# Altium footprint library IPC-SM-782 Section 11.2 SQFP_QFP-Square.PcbLib: 78 footprints (part 6 of 7)
Each footprint in its own frame and in the unit in brackets; x right, y up, seen from the top. Pads: shape width x height; smd on the part's side, far side on the other; paste and mask are expansions set on the pad; w line width, h text height; cw(c..) or ccw(c..) is an arc to the next point about the centre after c.
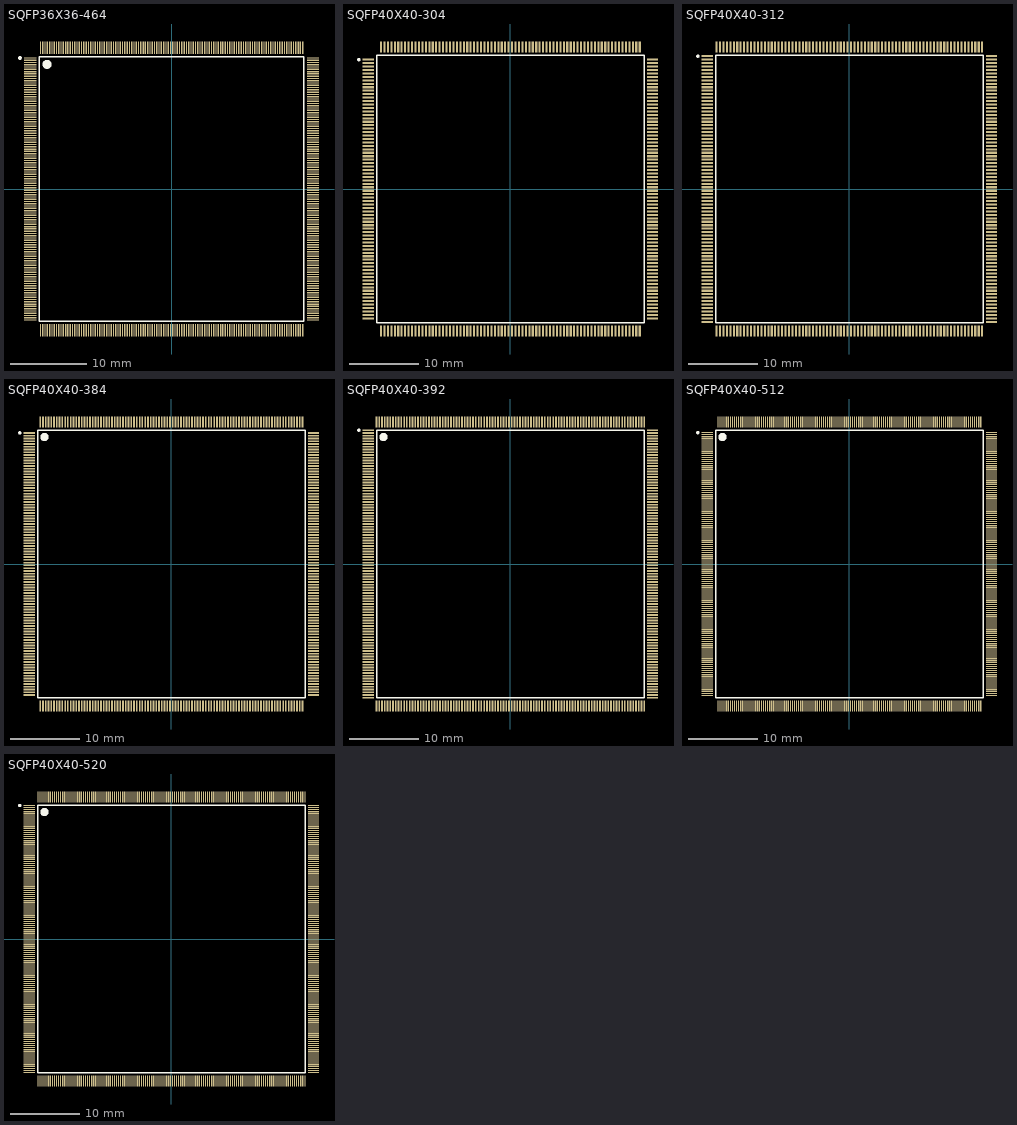
[diagram p5: the footprints below, top view; thin cyan lines are the x and y axes]

## SQFP36X36-464 [mm] "QFP; 464 Leads; Body 36 x 36 mm; Pitch 0.3 mm"
height 4.2
pads (464):
  rect 1.6x0.17 smd: 1(-18.6,17.25) 2(-18.6,16.95) 3(-18.6,16.65) 4(-18.6,16.35) 5(-18.6,16.05) 6(-18.6,15.75) 7(-18.6,15.45) 8(-18.6,15.15) 9(-18.6,14.85) 10(-18.6,14.55) 11(-18.6,14.25) 12(-18.6,13.95) 13(-18.6,13.65) 14(-18.6,13.35) 15(-18.6,13.05) 16(-18.6,12.75) 17(-18.6,12.45) 18(-18.6,12.15) 19(-18.6,11.85) 20(-18.6,11.55) 21(-18.6,11.25) 22(-18.6,10.95) 23(-18.6,10.65) 24(-18.6,10.35) 25(-18.6,10.05) 26(-18.6,9.75) 27(-18.6,9.45) 28(-18.6,9.15) 29(-18.6,8.85) 30(-18.6,8.55) 31(-18.6,8.25) 32(-18.6,7.95) 33(-18.6,7.65) 34(-18.6,7.35) 35(-18.6,7.05) 36(-18.6,6.75) 37(-18.6,6.45) 38(-18.6,6.15) 39(-18.6,5.85) 40(-18.6,5.55) 41(-18.6,5.25) 42(-18.6,4.95) 43(-18.6,4.65) 44(-18.6,4.35) 45(-18.6,4.05) 46(-18.6,3.75) 47(-18.6,3.45) 48(-18.6,3.15) 49(-18.6,2.85) 50(-18.6,2.55) 51(-18.6,2.25) 52(-18.6,1.95) 53(-18.6,1.65) 54(-18.6,1.35) 55(-18.6,1.05) 56(-18.6,0.75) 57(-18.6,0.45) 58(-18.6,0.15) 59(-18.6,-0.15) 60(-18.6,-0.45) 61(-18.6,-0.75) 62(-18.6,-1.05) 63(-18.6,-1.35) 64(-18.6,-1.65) 65(-18.6,-1.95) 66(-18.6,-2.25) 67(-18.6,-2.55) 68(-18.6,-2.85) 69(-18.6,-3.15) 70(-18.6,-3.45) 71(-18.6,-3.75) 72(-18.6,-4.05) 73(-18.6,-4.35) 74(-18.6,-4.65) 75(-18.6,-4.95) 76(-18.6,-5.25) 77(-18.6,-5.55) 78(-18.6,-5.85) 79(-18.6,-6.15) 80(-18.6,-6.45) 81(-18.6,-6.75) 82(-18.6,-7.05) 83(-18.6,-7.35) 84(-18.6,-7.65) 85(-18.6,-7.95) 86(-18.6,-8.25) 87(-18.6,-8.55) 88(-18.6,-8.85) 89(-18.6,-9.15) 90(-18.6,-9.45) 91(-18.6,-9.75) 92(-18.6,-10.05) 93(-18.6,-10.35) 94(-18.6,-10.65) 95(-18.6,-10.95) 96(-18.6,-11.25) 97(-18.6,-11.55) 98(-18.6,-11.85) 99(-18.6,-12.15) 100(-18.6,-12.45) 101(-18.6,-12.75) 102(-18.6,-13.05) 103(-18.6,-13.35) 104(-18.6,-13.65) 105(-18.6,-13.95) 106(-18.6,-14.25) 107(-18.6,-14.55) 108(-18.6,-14.85) 109(-18.6,-15.15) 110(-18.6,-15.45) 111(-18.6,-15.75) 112(-18.6,-16.05) 113(-18.6,-16.35) 114(-18.6,-16.65) 115(-18.6,-16.95) 116(-18.6,-17.25) 233(18.6,-17.25) 234(18.6,-16.95) 235(18.6,-16.65) 236(18.6,-16.35) 237(18.6,-16.05) 238(18.6,-15.75) 239(18.6,-15.45) 240(18.6,-15.15) 241(18.6,-14.85) 242(18.6,-14.55) 243(18.6,-14.25) 244(18.6,-13.95) 245(18.6,-13.65) 246(18.6,-13.35) 247(18.6,-13.05) 248(18.6,-12.75) 249(18.6,-12.45) 250(18.6,-12.15) 251(18.6,-11.85) 252(18.6,-11.55) 253(18.6,-11.25) 254(18.6,-10.95) 255(18.6,-10.65) 256(18.6,-10.35) 257(18.6,-10.05) 258(18.6,-9.75) 259(18.6,-9.45) 260(18.6,-9.15) 261(18.6,-8.85) 262(18.6,-8.55) 263(18.6,-8.25) 264(18.6,-7.95) 265(18.6,-7.65) 266(18.6,-7.35) 267(18.6,-7.05) 268(18.6,-6.75) 269(18.6,-6.45) 270(18.6,-6.15) 271(18.6,-5.85) 272(18.6,-5.55) 273(18.6,-5.25) 274(18.6,-4.95) 275(18.6,-4.65) 276(18.6,-4.35) 277(18.6,-4.05) 278(18.6,-3.75) 279(18.6,-3.45) 280(18.6,-3.15) 281(18.6,-2.85) 282(18.6,-2.55) 283(18.6,-2.25) 284(18.6,-1.95) 285(18.6,-1.65) 286(18.6,-1.35) 287(18.6,-1.05) 288(18.6,-0.75) 289(18.6,-0.45) 290(18.6,-0.15) 291(18.6,0.15) 292(18.6,0.45) 293(18.6,0.75) 294(18.6,1.05) 295(18.6,1.35) 296(18.6,1.65) 297(18.6,1.95) 298(18.6,2.25) 299(18.6,2.55) 300(18.6,2.85) 301(18.6,3.15) 302(18.6,3.45) 303(18.6,3.75) 304(18.6,4.05) 305(18.6,4.35) 306(18.6,4.65) 307(18.6,4.95) 308(18.6,5.25) 309(18.6,5.55) 310(18.6,5.85) 311(18.6,6.15) 312(18.6,6.45) 313(18.6,6.75) 314(18.6,7.05) 315(18.6,7.35) 316(18.6,7.65) 317(18.6,7.95) 318(18.6,8.25) 319(18.6,8.55) 320(18.6,8.85) 321(18.6,9.15) 322(18.6,9.45) 323(18.6,9.75) 324(18.6,10.05) 325(18.6,10.35) 326(18.6,10.65) 327(18.6,10.95) 328(18.6,11.25) 329(18.6,11.55) 330(18.6,11.85) 331(18.6,12.15) 332(18.6,12.45) 333(18.6,12.75) 334(18.6,13.05) 335(18.6,13.35) 336(18.6,13.65) 337(18.6,13.95) 338(18.6,14.25) 339(18.6,14.55) 340(18.6,14.85) 341(18.6,15.15) 342(18.6,15.45) 343(18.6,15.75) 344(18.6,16.05) 345(18.6,16.35) 346(18.6,16.65) 347(18.6,16.95) 348(18.6,17.25)
  rect 0.17x1.6 smd: 117(-17.25,-18.6) 118(-16.95,-18.6) 119(-16.65,-18.6) 120(-16.35,-18.6) 121(-16.05,-18.6) 122(-15.75,-18.6) 123(-15.45,-18.6) 124(-15.15,-18.6) 125(-14.85,-18.6) 126(-14.55,-18.6) 127(-14.25,-18.6) 128(-13.95,-18.6) 129(-13.65,-18.6) 130(-13.35,-18.6) 131(-13.05,-18.6) 132(-12.75,-18.6) 133(-12.45,-18.6) 134(-12.15,-18.6) 135(-11.85,-18.6) 136(-11.55,-18.6) 137(-11.25,-18.6) 138(-10.95,-18.6) 139(-10.65,-18.6) 140(-10.35,-18.6) 141(-10.05,-18.6) 142(-9.75,-18.6) 143(-9.45,-18.6) 144(-9.15,-18.6) 145(-8.85,-18.6) 146(-8.55,-18.6) 147(-8.25,-18.6) 148(-7.95,-18.6) 149(-7.65,-18.6) 150(-7.35,-18.6) 151(-7.05,-18.6) 152(-6.75,-18.6) 153(-6.45,-18.6) 154(-6.15,-18.6) 155(-5.85,-18.6) 156(-5.55,-18.6) 157(-5.25,-18.6) 158(-4.95,-18.6) 159(-4.65,-18.6) 160(-4.35,-18.6) 161(-4.05,-18.6) 162(-3.75,-18.6) 163(-3.45,-18.6) 164(-3.15,-18.6) 165(-2.85,-18.6) 166(-2.55,-18.6) 167(-2.25,-18.6) 168(-1.95,-18.6) 169(-1.65,-18.6) 170(-1.35,-18.6) 171(-1.05,-18.6) 172(-0.75,-18.6) 173(-0.45,-18.6) 174(-0.15,-18.6) 175(0.15,-18.6) 176(0.45,-18.6) 177(0.75,-18.6) 178(1.05,-18.6) 179(1.35,-18.6) 180(1.65,-18.6) 181(1.95,-18.6) 182(2.25,-18.6) 183(2.55,-18.6) 184(2.85,-18.6) 185(3.15,-18.6) 186(3.45,-18.6) 187(3.75,-18.6) 188(4.05,-18.6) 189(4.35,-18.6) 190(4.65,-18.6) 191(4.95,-18.6) 192(5.25,-18.6) 193(5.55,-18.6) 194(5.85,-18.6) 195(6.15,-18.6) 196(6.45,-18.6) 197(6.75,-18.6) 198(7.05,-18.6) 199(7.35,-18.6) 200(7.65,-18.6) 201(7.95,-18.6) 202(8.25,-18.6) 203(8.55,-18.6) 204(8.85,-18.6) 205(9.15,-18.6) 206(9.45,-18.6) 207(9.75,-18.6) 208(10.05,-18.6) 209(10.35,-18.6) 210(10.65,-18.6) 211(10.95,-18.6) 212(11.25,-18.6) 213(11.55,-18.6) 214(11.85,-18.6) 215(12.15,-18.6) 216(12.45,-18.6) 217(12.75,-18.6) 218(13.05,-18.6) 219(13.35,-18.6) 220(13.65,-18.6) 221(13.95,-18.6) 222(14.25,-18.6) 223(14.55,-18.6) 224(14.85,-18.6) 225(15.15,-18.6) 226(15.45,-18.6) 227(15.75,-18.6) 228(16.05,-18.6) 229(16.35,-18.6) 230(16.65,-18.6) 231(16.95,-18.6) 232(17.25,-18.6) 349(17.25,18.6) 350(16.95,18.6) 351(16.65,18.6) 352(16.35,18.6) 353(16.05,18.6) 354(15.75,18.6) 355(15.45,18.6) 356(15.15,18.6) 357(14.85,18.6) 358(14.55,18.6) 359(14.25,18.6) 360(13.95,18.6) 361(13.65,18.6) 362(13.35,18.6) 363(13.05,18.6) 364(12.75,18.6) 365(12.45,18.6) 366(12.15,18.6) 367(11.85,18.6) 368(11.55,18.6) 369(11.25,18.6) 370(10.95,18.6) 371(10.65,18.6) 372(10.35,18.6) 373(10.05,18.6) 374(9.75,18.6) 375(9.45,18.6) 376(9.15,18.6) 377(8.85,18.6) 378(8.55,18.6) 379(8.25,18.6) 380(7.95,18.6) 381(7.65,18.6) 382(7.35,18.6) 383(7.05,18.6) 384(6.75,18.6) 385(6.45,18.6) 386(6.15,18.6) 387(5.85,18.6) 388(5.55,18.6) 389(5.25,18.6) 390(4.95,18.6) 391(4.65,18.6) 392(4.35,18.6) 393(4.05,18.6) 394(3.75,18.6) 395(3.45,18.6) 396(3.15,18.6) 397(2.85,18.6) 398(2.55,18.6) 399(2.25,18.6) 400(1.95,18.6) 401(1.65,18.6) 402(1.35,18.6) 403(1.05,18.6) 404(0.75,18.6) 405(0.45,18.6) 406(0.15,18.6) 407(-0.15,18.6) 408(-0.45,18.6) 409(-0.75,18.6) 410(-1.05,18.6) 411(-1.35,18.6) 412(-1.65,18.6) 413(-1.95,18.6) 414(-2.25,18.6) 415(-2.55,18.6) 416(-2.85,18.6) 417(-3.15,18.6) 418(-3.45,18.6) 419(-3.75,18.6) 420(-4.05,18.6) 421(-4.35,18.6) 422(-4.65,18.6) 423(-4.95,18.6) 424(-5.25,18.6) 425(-5.55,18.6) 426(-5.85,18.6) 427(-6.15,18.6) 428(-6.45,18.6) 429(-6.75,18.6) 430(-7.05,18.6) 431(-7.35,18.6) 432(-7.65,18.6) 433(-7.95,18.6) 434(-8.25,18.6) 435(-8.55,18.6) 436(-8.85,18.6) 437(-9.15,18.6) 438(-9.45,18.6) 439(-9.75,18.6) 440(-10.05,18.6) 441(-10.35,18.6) 442(-10.65,18.6) 443(-10.95,18.6) 444(-11.25,18.6) 445(-11.55,18.6) 446(-11.85,18.6) 447(-12.15,18.6) 448(-12.45,18.6) 449(-12.75,18.6) 450(-13.05,18.6) 451(-13.35,18.6) 452(-13.65,18.6) 453(-13.95,18.6) 454(-14.25,18.6) 455(-14.55,18.6) 456(-14.85,18.6) 457(-15.15,18.6) 458(-15.45,18.6) 459(-15.75,18.6) 460(-16.05,18.6) 461(-16.35,18.6) 462(-16.65,18.6) 463(-16.95,18.6) 464(-17.25,18.6)
Top Overlay:
  circle w0.25: c-19.96,17.25 r0.125
  circle w0.6: c-16.4,16.4 r0.3
  lines w0.2: -17.4,-17.4 17.4,-17.4 17.4,17.4 -17.4,17.4 -17.4,-17.4

## SQFP40X40-304 [mm] "QFP; 304 Leads; Body 40 x 40 mm; Pitch 0.5 mm"
height 4.2
pads (304):
  rect 1.6x0.3 smd: 1(-20.6,18.75) 2(-20.6,18.25) 3(-20.6,17.75) 4(-20.6,17.25) 5(-20.6,16.75) 6(-20.6,16.25) 7(-20.6,15.75) 8(-20.6,15.25) 9(-20.6,14.75) 10(-20.6,14.25) 11(-20.6,13.75) 12(-20.6,13.25) 13(-20.6,12.75) 14(-20.6,12.25) 15(-20.6,11.75) 16(-20.6,11.25) 17(-20.6,10.75) 18(-20.6,10.25) 19(-20.6,9.75) 20(-20.6,9.25) 21(-20.6,8.75) 22(-20.6,8.25) 23(-20.6,7.75) 24(-20.6,7.25) 25(-20.6,6.75) 26(-20.6,6.25) 27(-20.6,5.75) 28(-20.6,5.25) 29(-20.6,4.75) 30(-20.6,4.25) 31(-20.6,3.75) 32(-20.6,3.25) 33(-20.6,2.75) 34(-20.6,2.25) 35(-20.6,1.75) 36(-20.6,1.25) 37(-20.6,0.75) 38(-20.6,0.25) 39(-20.6,-0.25) 40(-20.6,-0.75) 41(-20.6,-1.25) 42(-20.6,-1.75) 43(-20.6,-2.25) 44(-20.6,-2.75) 45(-20.6,-3.25) 46(-20.6,-3.75) 47(-20.6,-4.25) 48(-20.6,-4.75) 49(-20.6,-5.25) 50(-20.6,-5.75) 51(-20.6,-6.25) 52(-20.6,-6.75) 53(-20.6,-7.25) 54(-20.6,-7.75) 55(-20.6,-8.25) 56(-20.6,-8.75) 57(-20.6,-9.25) 58(-20.6,-9.75) 59(-20.6,-10.25) 60(-20.6,-10.75) 61(-20.6,-11.25) 62(-20.6,-11.75) 63(-20.6,-12.25) 64(-20.6,-12.75) 65(-20.6,-13.25) 66(-20.6,-13.75) 67(-20.6,-14.25) 68(-20.6,-14.75) 69(-20.6,-15.25) 70(-20.6,-15.75) 71(-20.6,-16.25) 72(-20.6,-16.75) 73(-20.6,-17.25) 74(-20.6,-17.75) 75(-20.6,-18.25) 76(-20.6,-18.75) 153(20.6,-18.75) 154(20.6,-18.25) 155(20.6,-17.75) 156(20.6,-17.25) 157(20.6,-16.75) 158(20.6,-16.25) 159(20.6,-15.75) 160(20.6,-15.25) 161(20.6,-14.75) 162(20.6,-14.25) 163(20.6,-13.75) 164(20.6,-13.25) 165(20.6,-12.75) 166(20.6,-12.25) 167(20.6,-11.75) 168(20.6,-11.25) 169(20.6,-10.75) 170(20.6,-10.25) 171(20.6,-9.75) 172(20.6,-9.25) 173(20.6,-8.75) 174(20.6,-8.25) 175(20.6,-7.75) 176(20.6,-7.25) 177(20.6,-6.75) 178(20.6,-6.25) 179(20.6,-5.75) 180(20.6,-5.25) 181(20.6,-4.75) 182(20.6,-4.25) 183(20.6,-3.75) 184(20.6,-3.25) 185(20.6,-2.75) 186(20.6,-2.25) 187(20.6,-1.75) 188(20.6,-1.25) 189(20.6,-0.75) 190(20.6,-0.25) 191(20.6,0.25) 192(20.6,0.75) 193(20.6,1.25) 194(20.6,1.75) 195(20.6,2.25) 196(20.6,2.75) 197(20.6,3.25) 198(20.6,3.75) 199(20.6,4.25) 200(20.6,4.75) 201(20.6,5.25) 202(20.6,5.75) 203(20.6,6.25) 204(20.6,6.75) 205(20.6,7.25) 206(20.6,7.75) 207(20.6,8.25) 208(20.6,8.75) 209(20.6,9.25) 210(20.6,9.75) 211(20.6,10.25) 212(20.6,10.75) 213(20.6,11.25) 214(20.6,11.75) 215(20.6,12.25) 216(20.6,12.75) 217(20.6,13.25) 218(20.6,13.75) 219(20.6,14.25) 220(20.6,14.75) 221(20.6,15.25) 222(20.6,15.75) 223(20.6,16.25) 224(20.6,16.75) 225(20.6,17.25) 226(20.6,17.75) 227(20.6,18.25) 228(20.6,18.75)
  rect 0.3x1.6 smd: 77(-18.75,-20.6) 78(-18.25,-20.6) 79(-17.75,-20.6) 80(-17.25,-20.6) 81(-16.75,-20.6) 82(-16.25,-20.6) 83(-15.75,-20.6) 84(-15.25,-20.6) 85(-14.75,-20.6) 86(-14.25,-20.6) 87(-13.75,-20.6) 88(-13.25,-20.6) 89(-12.75,-20.6) 90(-12.25,-20.6) 91(-11.75,-20.6) 92(-11.25,-20.6) 93(-10.75,-20.6) 94(-10.25,-20.6) 95(-9.75,-20.6) 96(-9.25,-20.6) 97(-8.75,-20.6) 98(-8.25,-20.6) 99(-7.75,-20.6) 100(-7.25,-20.6) 101(-6.75,-20.6) 102(-6.25,-20.6) 103(-5.75,-20.6) 104(-5.25,-20.6) 105(-4.75,-20.6) 106(-4.25,-20.6) 107(-3.75,-20.6) 108(-3.25,-20.6) 109(-2.75,-20.6) 110(-2.25,-20.6) 111(-1.75,-20.6) 112(-1.25,-20.6) 113(-0.75,-20.6) 114(-0.25,-20.6) 115(0.25,-20.6) 116(0.75,-20.6) 117(1.25,-20.6) 118(1.75,-20.6) 119(2.25,-20.6) 120(2.75,-20.6) 121(3.25,-20.6) 122(3.75,-20.6) 123(4.25,-20.6) 124(4.75,-20.6) 125(5.25,-20.6) 126(5.75,-20.6) 127(6.25,-20.6) 128(6.75,-20.6) 129(7.25,-20.6) 130(7.75,-20.6) 131(8.25,-20.6) 132(8.75,-20.6) 133(9.25,-20.6) 134(9.75,-20.6) 135(10.25,-20.6) 136(10.75,-20.6) 137(11.25,-20.6) 138(11.75,-20.6) 139(12.25,-20.6) 140(12.75,-20.6) 141(13.25,-20.6) 142(13.75,-20.6) 143(14.25,-20.6) 144(14.75,-20.6) 145(15.25,-20.6) 146(15.75,-20.6) 147(16.25,-20.6) 148(16.75,-20.6) 149(17.25,-20.6) 150(17.75,-20.6) 151(18.25,-20.6) 152(18.75,-20.6) 229(18.75,20.6) 230(18.25,20.6) 231(17.75,20.6) 232(17.25,20.6) 233(16.75,20.6) 234(16.25,20.6) 235(15.75,20.6) 236(15.25,20.6) 237(14.75,20.6) 238(14.25,20.6) 239(13.75,20.6) 240(13.25,20.6) 241(12.75,20.6) 242(12.25,20.6) 243(11.75,20.6) 244(11.25,20.6) 245(10.75,20.6) 246(10.25,20.6) 247(9.75,20.6) 248(9.25,20.6) 249(8.75,20.6) 250(8.25,20.6) 251(7.75,20.6) 252(7.25,20.6) 253(6.75,20.6) 254(6.25,20.6) 255(5.75,20.6) 256(5.25,20.6) 257(4.75,20.6) 258(4.25,20.6) 259(3.75,20.6) 260(3.25,20.6) 261(2.75,20.6) 262(2.25,20.6) 263(1.75,20.6) 264(1.25,20.6) 265(0.75,20.6) 266(0.25,20.6) 267(-0.25,20.6) 268(-0.75,20.6) 269(-1.25,20.6) 270(-1.75,20.6) 271(-2.25,20.6) 272(-2.75,20.6) 273(-3.25,20.6) 274(-3.75,20.6) 275(-4.25,20.6) 276(-4.75,20.6) 277(-5.25,20.6) 278(-5.75,20.6) 279(-6.25,20.6) 280(-6.75,20.6) 281(-7.25,20.6) 282(-7.75,20.6) 283(-8.25,20.6) 284(-8.75,20.6) 285(-9.25,20.6) 286(-9.75,20.6) 287(-10.25,20.6) 288(-10.75,20.6) 289(-11.25,20.6) 290(-11.75,20.6) 291(-12.25,20.6) 292(-12.75,20.6) 293(-13.25,20.6) 294(-13.75,20.6) 295(-14.25,20.6) 296(-14.75,20.6) 297(-15.25,20.6) 298(-15.75,20.6) 299(-16.25,20.6) 300(-16.75,20.6) 301(-17.25,20.6) 302(-17.75,20.6) 303(-18.25,20.6) 304(-18.75,20.6)
Top Overlay:
  circle w0.25: c-21.96,18.75 r0.125
  lines w0.2: -19.4,-19.4 19.4,-19.4 19.4,19.4 -19.4,19.4 -19.4,-19.4

## SQFP40X40-312 [mm] "QFP; 312 Leads; Body 40 x 40 mm; Pitch 0.5 mm"
height 4.2
pads (312):
  rect 1.6x0.3 smd: 1(-20.6,19.25) 2(-20.6,18.75) 3(-20.6,18.25) 4(-20.6,17.75) 5(-20.6,17.25) 6(-20.6,16.75) 7(-20.6,16.25) 8(-20.6,15.75) 9(-20.6,15.25) 10(-20.6,14.75) 11(-20.6,14.25) 12(-20.6,13.75) 13(-20.6,13.25) 14(-20.6,12.75) 15(-20.6,12.25) 16(-20.6,11.75) 17(-20.6,11.25) 18(-20.6,10.75) 19(-20.6,10.25) 20(-20.6,9.75) 21(-20.6,9.25) 22(-20.6,8.75) 23(-20.6,8.25) 24(-20.6,7.75) 25(-20.6,7.25) 26(-20.6,6.75) 27(-20.6,6.25) 28(-20.6,5.75) 29(-20.6,5.25) 30(-20.6,4.75) 31(-20.6,4.25) 32(-20.6,3.75) 33(-20.6,3.25) 34(-20.6,2.75) 35(-20.6,2.25) 36(-20.6,1.75) 37(-20.6,1.25) 38(-20.6,0.75) 39(-20.6,0.25) 40(-20.6,-0.25) 41(-20.6,-0.75) 42(-20.6,-1.25) 43(-20.6,-1.75) 44(-20.6,-2.25) 45(-20.6,-2.75) 46(-20.6,-3.25) 47(-20.6,-3.75) 48(-20.6,-4.25) 49(-20.6,-4.75) 50(-20.6,-5.25) 51(-20.6,-5.75) 52(-20.6,-6.25) 53(-20.6,-6.75) 54(-20.6,-7.25) 55(-20.6,-7.75) 56(-20.6,-8.25) 57(-20.6,-8.75) 58(-20.6,-9.25) 59(-20.6,-9.75) 60(-20.6,-10.25) 61(-20.6,-10.75) 62(-20.6,-11.25) 63(-20.6,-11.75) 64(-20.6,-12.25) 65(-20.6,-12.75) 66(-20.6,-13.25) 67(-20.6,-13.75) 68(-20.6,-14.25) 69(-20.6,-14.75) 70(-20.6,-15.25) 71(-20.6,-15.75) 72(-20.6,-16.25) 73(-20.6,-16.75) 74(-20.6,-17.25) 75(-20.6,-17.75) 76(-20.6,-18.25) 77(-20.6,-18.75) 78(-20.6,-19.25) 157(20.6,-19.25) 158(20.6,-18.75) 159(20.6,-18.25) 160(20.6,-17.75) 161(20.6,-17.25) 162(20.6,-16.75) 163(20.6,-16.25) 164(20.6,-15.75) 165(20.6,-15.25) 166(20.6,-14.75) 167(20.6,-14.25) 168(20.6,-13.75) 169(20.6,-13.25) 170(20.6,-12.75) 171(20.6,-12.25) 172(20.6,-11.75) 173(20.6,-11.25) 174(20.6,-10.75) 175(20.6,-10.25) 176(20.6,-9.75) 177(20.6,-9.25) 178(20.6,-8.75) 179(20.6,-8.25) 180(20.6,-7.75) 181(20.6,-7.25) 182(20.6,-6.75) 183(20.6,-6.25) 184(20.6,-5.75) 185(20.6,-5.25) 186(20.6,-4.75) 187(20.6,-4.25) 188(20.6,-3.75) 189(20.6,-3.25) 190(20.6,-2.75) 191(20.6,-2.25) 192(20.6,-1.75) 193(20.6,-1.25) 194(20.6,-0.75) 195(20.6,-0.25) 196(20.6,0.25) 197(20.6,0.75) 198(20.6,1.25) 199(20.6,1.75) 200(20.6,2.25) 201(20.6,2.75) 202(20.6,3.25) 203(20.6,3.75) 204(20.6,4.25) 205(20.6,4.75) 206(20.6,5.25) 207(20.6,5.75) 208(20.6,6.25) 209(20.6,6.75) 210(20.6,7.25) 211(20.6,7.75) 212(20.6,8.25) 213(20.6,8.75) 214(20.6,9.25) 215(20.6,9.75) 216(20.6,10.25) 217(20.6,10.75) 218(20.6,11.25) 219(20.6,11.75) 220(20.6,12.25) 221(20.6,12.75) 222(20.6,13.25) 223(20.6,13.75) 224(20.6,14.25) 225(20.6,14.75) 226(20.6,15.25) 227(20.6,15.75) 228(20.6,16.25) 229(20.6,16.75) 230(20.6,17.25) 231(20.6,17.75) 232(20.6,18.25) 233(20.6,18.75) 234(20.6,19.25)
  rect 0.3x1.6 smd: 79(-19.25,-20.6) 80(-18.75,-20.6) 81(-18.25,-20.6) 82(-17.75,-20.6) 83(-17.25,-20.6) 84(-16.75,-20.6) 85(-16.25,-20.6) 86(-15.75,-20.6) 87(-15.25,-20.6) 88(-14.75,-20.6) 89(-14.25,-20.6) 90(-13.75,-20.6) 91(-13.25,-20.6) 92(-12.75,-20.6) 93(-12.25,-20.6) 94(-11.75,-20.6) 95(-11.25,-20.6) 96(-10.75,-20.6) 97(-10.25,-20.6) 98(-9.75,-20.6) 99(-9.25,-20.6) 100(-8.75,-20.6) 101(-8.25,-20.6) 102(-7.75,-20.6) 103(-7.25,-20.6) 104(-6.75,-20.6) 105(-6.25,-20.6) 106(-5.75,-20.6) 107(-5.25,-20.6) 108(-4.75,-20.6) 109(-4.25,-20.6) 110(-3.75,-20.6) 111(-3.25,-20.6) 112(-2.75,-20.6) 113(-2.25,-20.6) 114(-1.75,-20.6) 115(-1.25,-20.6) 116(-0.75,-20.6) 117(-0.25,-20.6) 118(0.25,-20.6) 119(0.75,-20.6) 120(1.25,-20.6) 121(1.75,-20.6) 122(2.25,-20.6) 123(2.75,-20.6) 124(3.25,-20.6) 125(3.75,-20.6) 126(4.25,-20.6) 127(4.75,-20.6) 128(5.25,-20.6) 129(5.75,-20.6) 130(6.25,-20.6) 131(6.75,-20.6) 132(7.25,-20.6) 133(7.75,-20.6) 134(8.25,-20.6) 135(8.75,-20.6) 136(9.25,-20.6) 137(9.75,-20.6) 138(10.25,-20.6) 139(10.75,-20.6) 140(11.25,-20.6) 141(11.75,-20.6) 142(12.25,-20.6) 143(12.75,-20.6) 144(13.25,-20.6) 145(13.75,-20.6) 146(14.25,-20.6) 147(14.75,-20.6) 148(15.25,-20.6) 149(15.75,-20.6) 150(16.25,-20.6) 151(16.75,-20.6) 152(17.25,-20.6) 153(17.75,-20.6) 154(18.25,-20.6) 155(18.75,-20.6) 156(19.25,-20.6) 235(19.25,20.6) 236(18.75,20.6) 237(18.25,20.6) 238(17.75,20.6) 239(17.25,20.6) 240(16.75,20.6) 241(16.25,20.6) 242(15.75,20.6) 243(15.25,20.6) 244(14.75,20.6) 245(14.25,20.6) 246(13.75,20.6) 247(13.25,20.6) 248(12.75,20.6) 249(12.25,20.6) 250(11.75,20.6) 251(11.25,20.6) 252(10.75,20.6) 253(10.25,20.6) 254(9.75,20.6) 255(9.25,20.6) 256(8.75,20.6) 257(8.25,20.6) 258(7.75,20.6) 259(7.25,20.6) 260(6.75,20.6) 261(6.25,20.6) 262(5.75,20.6) 263(5.25,20.6) 264(4.75,20.6) 265(4.25,20.6) 266(3.75,20.6) 267(3.25,20.6) 268(2.75,20.6) 269(2.25,20.6) 270(1.75,20.6) 271(1.25,20.6) 272(0.75,20.6) 273(0.25,20.6) 274(-0.25,20.6) 275(-0.75,20.6) 276(-1.25,20.6) 277(-1.75,20.6) 278(-2.25,20.6) 279(-2.75,20.6) 280(-3.25,20.6) 281(-3.75,20.6) 282(-4.25,20.6) 283(-4.75,20.6) 284(-5.25,20.6) 285(-5.75,20.6) 286(-6.25,20.6) 287(-6.75,20.6) 288(-7.25,20.6) 289(-7.75,20.6) 290(-8.25,20.6) 291(-8.75,20.6) 292(-9.25,20.6) 293(-9.75,20.6) 294(-10.25,20.6) 295(-10.75,20.6) 296(-11.25,20.6) 297(-11.75,20.6) 298(-12.25,20.6) 299(-12.75,20.6) 300(-13.25,20.6) 301(-13.75,20.6) 302(-14.25,20.6) 303(-14.75,20.6) 304(-15.25,20.6) 305(-15.75,20.6) 306(-16.25,20.6) 307(-16.75,20.6) 308(-17.25,20.6) 309(-17.75,20.6) 310(-18.25,20.6) 311(-18.75,20.6) 312(-19.25,20.6)
Top Overlay:
  circle w0.25: c-21.96,19.25 r0.125
  lines w0.2: -19.4,-19.4 -19.4,19.4 19.4,19.4 19.4,-19.4 -19.4,-19.4

## SQFP40X40-384 [mm] "QFP; 384 Leads; Body 40 x 40 mm; Pitch 0.4 mm"
height 4.2
pads (384):
  rect 1.6x0.25 smd: 1(-20.6,19) 2(-20.6,18.6) 3(-20.6,18.2) 4(-20.6,17.8) 5(-20.6,17.4) 6(-20.6,17) 7(-20.6,16.6) 8(-20.6,16.2) 9(-20.6,15.8) 10(-20.6,15.4) 11(-20.6,15) 12(-20.6,14.6) 13(-20.6,14.2) 14(-20.6,13.8) 15(-20.6,13.4) 16(-20.6,13) 17(-20.6,12.6) 18(-20.6,12.2) 19(-20.6,11.8) 20(-20.6,11.4) 21(-20.6,11) 22(-20.6,10.6) 23(-20.6,10.2) 24(-20.6,9.8) 25(-20.6,9.4) 26(-20.6,9) 27(-20.6,8.6) 28(-20.6,8.2) 29(-20.6,7.8) 30(-20.6,7.4) 31(-20.6,7) 32(-20.6,6.6) 33(-20.6,6.2) 34(-20.6,5.8) 35(-20.6,5.4) 36(-20.6,5) 37(-20.6,4.6) 38(-20.6,4.2) 39(-20.6,3.8) 40(-20.6,3.4) 41(-20.6,3) 42(-20.6,2.6) 43(-20.6,2.2) 44(-20.6,1.8) 45(-20.6,1.4) 46(-20.6,1) 47(-20.6,0.6) 48(-20.6,0.2) 49(-20.6,-0.2) 50(-20.6,-0.6) 51(-20.6,-1) 52(-20.6,-1.4) 53(-20.6,-1.8) 54(-20.6,-2.2) 55(-20.6,-2.6) 56(-20.6,-3) 57(-20.6,-3.4) 58(-20.6,-3.8) 59(-20.6,-4.2) 60(-20.6,-4.6) 61(-20.6,-5) 62(-20.6,-5.4) 63(-20.6,-5.8) 64(-20.6,-6.2) 65(-20.6,-6.6) 66(-20.6,-7) 67(-20.6,-7.4) 68(-20.6,-7.8) 69(-20.6,-8.2) 70(-20.6,-8.6) 71(-20.6,-9) 72(-20.6,-9.4) 73(-20.6,-9.8) 74(-20.6,-10.2) 75(-20.6,-10.6) 76(-20.6,-11) 77(-20.6,-11.4) 78(-20.6,-11.8) 79(-20.6,-12.2) 80(-20.6,-12.6) 81(-20.6,-13) 82(-20.6,-13.4) 83(-20.6,-13.8) 84(-20.6,-14.2) 85(-20.6,-14.6) 86(-20.6,-15) 87(-20.6,-15.4) 88(-20.6,-15.8) 89(-20.6,-16.2) 90(-20.6,-16.6) 91(-20.6,-17) 92(-20.6,-17.4) 93(-20.6,-17.8) 94(-20.6,-18.2) 95(-20.6,-18.6) 96(-20.6,-19) 193(20.6,-19) 194(20.6,-18.6) 195(20.6,-18.2) 196(20.6,-17.8) 197(20.6,-17.4) 198(20.6,-17) 199(20.6,-16.6) 200(20.6,-16.2) 201(20.6,-15.8) 202(20.6,-15.4) 203(20.6,-15) 204(20.6,-14.6) 205(20.6,-14.2) 206(20.6,-13.8) 207(20.6,-13.4) 208(20.6,-13) 209(20.6,-12.6) 210(20.6,-12.2) 211(20.6,-11.8) 212(20.6,-11.4) 213(20.6,-11) 214(20.6,-10.6) 215(20.6,-10.2) 216(20.6,-9.8) 217(20.6,-9.4) 218(20.6,-9) 219(20.6,-8.6) 220(20.6,-8.2) 221(20.6,-7.8) 222(20.6,-7.4) 223(20.6,-7) 224(20.6,-6.6) 225(20.6,-6.2) 226(20.6,-5.8) 227(20.6,-5.4) 228(20.6,-5) 229(20.6,-4.6) 230(20.6,-4.2) 231(20.6,-3.8) 232(20.6,-3.4) 233(20.6,-3) 234(20.6,-2.6) 235(20.6,-2.2) 236(20.6,-1.8) 237(20.6,-1.4) 238(20.6,-1) 239(20.6,-0.6) 240(20.6,-0.2) 241(20.6,0.2) 242(20.6,0.6) 243(20.6,1) 244(20.6,1.4) 245(20.6,1.8) 246(20.6,2.2) 247(20.6,2.6) 248(20.6,3) 249(20.6,3.4) 250(20.6,3.8) 251(20.6,4.2) 252(20.6,4.6) 253(20.6,5) 254(20.6,5.4) 255(20.6,5.8) 256(20.6,6.2) 257(20.6,6.6) 258(20.6,7) 259(20.6,7.4) 260(20.6,7.8) 261(20.6,8.2) 262(20.6,8.6) 263(20.6,9) 264(20.6,9.4) 265(20.6,9.8) 266(20.6,10.2) 267(20.6,10.6) 268(20.6,11) 269(20.6,11.4) 270(20.6,11.8) 271(20.6,12.2) 272(20.6,12.6) 273(20.6,13) 274(20.6,13.4) 275(20.6,13.8) 276(20.6,14.2) 277(20.6,14.6) 278(20.6,15) 279(20.6,15.4) 280(20.6,15.8) 281(20.6,16.2) 282(20.6,16.6) 283(20.6,17) 284(20.6,17.4) 285(20.6,17.8) 286(20.6,18.2) 287(20.6,18.6) 288(20.6,19)
  rect 0.25x1.6 smd: 97(-19,-20.6) 98(-18.6,-20.6) 99(-18.2,-20.6) 100(-17.8,-20.6) 101(-17.4,-20.6) 102(-17,-20.6) 103(-16.6,-20.6) 104(-16.2,-20.6) 105(-15.8,-20.6) 106(-15.4,-20.6) 107(-15,-20.6) 108(-14.6,-20.6) 109(-14.2,-20.6) 110(-13.8,-20.6) 111(-13.4,-20.6) 112(-13,-20.6) 113(-12.6,-20.6) 114(-12.2,-20.6) 115(-11.8,-20.6) 116(-11.4,-20.6) 117(-11,-20.6) 118(-10.6,-20.6) 119(-10.2,-20.6) 120(-9.8,-20.6) 121(-9.4,-20.6) 122(-9,-20.6) 123(-8.6,-20.6) 124(-8.2,-20.6) 125(-7.8,-20.6) 126(-7.4,-20.6) 127(-7,-20.6) 128(-6.6,-20.6) 129(-6.2,-20.6) 130(-5.8,-20.6) 131(-5.4,-20.6) 132(-5,-20.6) 133(-4.6,-20.6) 134(-4.2,-20.6) 135(-3.8,-20.6) 136(-3.4,-20.6) 137(-3,-20.6) 138(-2.6,-20.6) 139(-2.2,-20.6) 140(-1.8,-20.6) 141(-1.4,-20.6) 142(-1,-20.6) 143(-0.6,-20.6) 144(-0.2,-20.6) 145(0.2,-20.6) 146(0.6,-20.6) 147(1,-20.6) 148(1.4,-20.6) 149(1.8,-20.6) 150(2.2,-20.6) 151(2.6,-20.6) 152(3,-20.6) 153(3.4,-20.6) 154(3.8,-20.6) 155(4.2,-20.6) 156(4.6,-20.6) 157(5,-20.6) 158(5.4,-20.6) 159(5.8,-20.6) 160(6.2,-20.6) 161(6.6,-20.6) 162(7,-20.6) 163(7.4,-20.6) 164(7.8,-20.6) 165(8.2,-20.6) 166(8.6,-20.6) 167(9,-20.6) 168(9.4,-20.6) 169(9.8,-20.6) 170(10.2,-20.6) 171(10.6,-20.6) 172(11,-20.6) 173(11.4,-20.6) 174(11.8,-20.6) 175(12.2,-20.6) 176(12.6,-20.6) 177(13,-20.6) 178(13.4,-20.6) 179(13.8,-20.6) 180(14.2,-20.6) 181(14.6,-20.6) 182(15,-20.6) 183(15.4,-20.6) 184(15.8,-20.6) 185(16.2,-20.6) 186(16.6,-20.6) 187(17,-20.6) 188(17.4,-20.6) 189(17.8,-20.6) 190(18.2,-20.6) 191(18.6,-20.6) 192(19,-20.6) 289(19,20.6) 290(18.6,20.6) 291(18.2,20.6) 292(17.8,20.6) 293(17.4,20.6) 294(17,20.6) 295(16.6,20.6) 296(16.2,20.6) 297(15.8,20.6) 298(15.4,20.6) 299(15,20.6) 300(14.6,20.6) 301(14.2,20.6) 302(13.8,20.6) 303(13.4,20.6) 304(13,20.6) 305(12.6,20.6) 306(12.2,20.6) 307(11.8,20.6) 308(11.4,20.6) 309(11,20.6) 310(10.6,20.6) 311(10.2,20.6) 312(9.8,20.6) 313(9.4,20.6) 314(9,20.6) 315(8.6,20.6) 316(8.2,20.6) 317(7.8,20.6) 318(7.4,20.6) 319(7,20.6) 320(6.6,20.6) 321(6.2,20.6) 322(5.8,20.6) 323(5.4,20.6) 324(5,20.6) 325(4.6,20.6) 326(4.2,20.6) 327(3.8,20.6) 328(3.4,20.6) 329(3,20.6) 330(2.6,20.6) 331(2.2,20.6) 332(1.8,20.6) 333(1.4,20.6) 334(1,20.6) 335(0.6,20.6) 336(0.2,20.6) 337(-0.2,20.6) 338(-0.6,20.6) 339(-1,20.6) 340(-1.4,20.6) 341(-1.8,20.6) 342(-2.2,20.6) 343(-2.6,20.6) 344(-3,20.6) 345(-3.4,20.6) 346(-3.8,20.6) 347(-4.2,20.6) 348(-4.6,20.6) 349(-5,20.6) 350(-5.4,20.6) 351(-5.8,20.6) 352(-6.2,20.6) 353(-6.6,20.6) 354(-7,20.6) 355(-7.4,20.6) 356(-7.8,20.6) 357(-8.2,20.6) 358(-8.6,20.6) 359(-9,20.6) 360(-9.4,20.6) 361(-9.8,20.6) 362(-10.2,20.6) 363(-10.6,20.6) 364(-11,20.6) 365(-11.4,20.6) 366(-11.8,20.6) 367(-12.2,20.6) 368(-12.6,20.6) 369(-13,20.6) 370(-13.4,20.6) 371(-13.8,20.6) 372(-14.2,20.6) 373(-14.6,20.6) 374(-15,20.6) 375(-15.4,20.6) 376(-15.8,20.6) 377(-16.2,20.6) 378(-16.6,20.6) 379(-17,20.6) 380(-17.4,20.6) 381(-17.8,20.6) 382(-18.2,20.6) 383(-18.6,20.6) 384(-19,20.6)
Top Overlay:
  circle w0.6: c-18.4,18.4 r0.3
  circle w0.25: c-21.96,19 r0.125
  lines w0.2: -19.4,-19.4 19.4,-19.4 19.4,19.4 -19.4,19.4 -19.4,-19.4

## SQFP40X40-392 [mm] "QFP; 392 Leads; Body 40 x 40 mm; Pitch 0.4 mm"
height 4.2
pads (392):
  rect 1.6x0.25 smd: 1(-20.6,19.4) 2(-20.6,19) 3(-20.6,18.6) 4(-20.6,18.2) 5(-20.6,17.8) 6(-20.6,17.4) 7(-20.6,17) 8(-20.6,16.6) 9(-20.6,16.2) 10(-20.6,15.8) 11(-20.6,15.4) 12(-20.6,15) 13(-20.6,14.6) 14(-20.6,14.2) 15(-20.6,13.8) 16(-20.6,13.4) 17(-20.6,13) 18(-20.6,12.6) 19(-20.6,12.2) 20(-20.6,11.8) 21(-20.6,11.4) 22(-20.6,11) 23(-20.6,10.6) 24(-20.6,10.2) 25(-20.6,9.8) 26(-20.6,9.4) 27(-20.6,9) 28(-20.6,8.6) 29(-20.6,8.2) 30(-20.6,7.8) 31(-20.6,7.4) 32(-20.6,7) 33(-20.6,6.6) 34(-20.6,6.2) 35(-20.6,5.8) 36(-20.6,5.4) 37(-20.6,5) 38(-20.6,4.6) 39(-20.6,4.2) 40(-20.6,3.8) 41(-20.6,3.4) 42(-20.6,3) 43(-20.6,2.6) 44(-20.6,2.2) 45(-20.6,1.8) 46(-20.6,1.4) 47(-20.6,1) 48(-20.6,0.6) 49(-20.6,0.2) 50(-20.6,-0.2) 51(-20.6,-0.6) 52(-20.6,-1) 53(-20.6,-1.4) 54(-20.6,-1.8) 55(-20.6,-2.2) 56(-20.6,-2.6) 57(-20.6,-3) 58(-20.6,-3.4) 59(-20.6,-3.8) 60(-20.6,-4.2) 61(-20.6,-4.6) 62(-20.6,-5) 63(-20.6,-5.4) 64(-20.6,-5.8) 65(-20.6,-6.2) 66(-20.6,-6.6) 67(-20.6,-7) 68(-20.6,-7.4) 69(-20.6,-7.8) 70(-20.6,-8.2) 71(-20.6,-8.6) 72(-20.6,-9) 73(-20.6,-9.4) 74(-20.6,-9.8) 75(-20.6,-10.2) 76(-20.6,-10.6) 77(-20.6,-11) 78(-20.6,-11.4) 79(-20.6,-11.8) 80(-20.6,-12.2) 81(-20.6,-12.6) 82(-20.6,-13) 83(-20.6,-13.4) 84(-20.6,-13.8) 85(-20.6,-14.2) 86(-20.6,-14.6) 87(-20.6,-15) 88(-20.6,-15.4) 89(-20.6,-15.8) 90(-20.6,-16.2) 91(-20.6,-16.6) 92(-20.6,-17) 93(-20.6,-17.4) 94(-20.6,-17.8) 95(-20.6,-18.2) 96(-20.6,-18.6) 97(-20.6,-19) 98(-20.6,-19.4) 197(20.6,-19.4) 198(20.6,-19) 199(20.6,-18.6) 200(20.6,-18.2) 201(20.6,-17.8) 202(20.6,-17.4) 203(20.6,-17) 204(20.6,-16.6) 205(20.6,-16.2) 206(20.6,-15.8) 207(20.6,-15.4) 208(20.6,-15) 209(20.6,-14.6) 210(20.6,-14.2) 211(20.6,-13.8) 212(20.6,-13.4) 213(20.6,-13) 214(20.6,-12.6) 215(20.6,-12.2) 216(20.6,-11.8) 217(20.6,-11.4) 218(20.6,-11) 219(20.6,-10.6) 220(20.6,-10.2) 221(20.6,-9.8) 222(20.6,-9.4) 223(20.6,-9) 224(20.6,-8.6) 225(20.6,-8.2) 226(20.6,-7.8) 227(20.6,-7.4) 228(20.6,-7) 229(20.6,-6.6) 230(20.6,-6.2) 231(20.6,-5.8) 232(20.6,-5.4) 233(20.6,-5) 234(20.6,-4.6) 235(20.6,-4.2) 236(20.6,-3.8) 237(20.6,-3.4) 238(20.6,-3) 239(20.6,-2.6) 240(20.6,-2.2) 241(20.6,-1.8) 242(20.6,-1.4) 243(20.6,-1) 244(20.6,-0.6) 245(20.6,-0.2) 246(20.6,0.2) 247(20.6,0.6) 248(20.6,1) 249(20.6,1.4) 250(20.6,1.8) 251(20.6,2.2) 252(20.6,2.6) 253(20.6,3) 254(20.6,3.4) 255(20.6,3.8) 256(20.6,4.2) 257(20.6,4.6) 258(20.6,5) 259(20.6,5.4) 260(20.6,5.8) 261(20.6,6.2) 262(20.6,6.6) 263(20.6,7) 264(20.6,7.4) 265(20.6,7.8) 266(20.6,8.2) 267(20.6,8.6) 268(20.6,9) 269(20.6,9.4) 270(20.6,9.8) 271(20.6,10.2) 272(20.6,10.6) 273(20.6,11) 274(20.6,11.4) 275(20.6,11.8) 276(20.6,12.2) 277(20.6,12.6) 278(20.6,13) 279(20.6,13.4) 280(20.6,13.8) 281(20.6,14.2) 282(20.6,14.6) 283(20.6,15) 284(20.6,15.4) 285(20.6,15.8) 286(20.6,16.2) 287(20.6,16.6) 288(20.6,17) 289(20.6,17.4) 290(20.6,17.8) 291(20.6,18.2) 292(20.6,18.6) 293(20.6,19) 294(20.6,19.4)
  rect 0.25x1.6 smd: 99(-19.4,-20.6) 100(-19,-20.6) 101(-18.6,-20.6) 102(-18.2,-20.6) 103(-17.8,-20.6) 104(-17.4,-20.6) 105(-17,-20.6) 106(-16.6,-20.6) 107(-16.2,-20.6) 108(-15.8,-20.6) 109(-15.4,-20.6) 110(-15,-20.6) 111(-14.6,-20.6) 112(-14.2,-20.6) 113(-13.8,-20.6) 114(-13.4,-20.6) 115(-13,-20.6) 116(-12.6,-20.6) 117(-12.2,-20.6) 118(-11.8,-20.6) 119(-11.4,-20.6) 120(-11,-20.6) 121(-10.6,-20.6) 122(-10.2,-20.6) 123(-9.8,-20.6) 124(-9.4,-20.6) 125(-9,-20.6) 126(-8.6,-20.6) 127(-8.2,-20.6) 128(-7.8,-20.6) 129(-7.4,-20.6) 130(-7,-20.6) 131(-6.6,-20.6) 132(-6.2,-20.6) 133(-5.8,-20.6) 134(-5.4,-20.6) 135(-5,-20.6) 136(-4.6,-20.6) 137(-4.2,-20.6) 138(-3.8,-20.6) 139(-3.4,-20.6) 140(-3,-20.6) 141(-2.6,-20.6) 142(-2.2,-20.6) 143(-1.8,-20.6) 144(-1.4,-20.6) 145(-1,-20.6) 146(-0.6,-20.6) 147(-0.2,-20.6) 148(0.2,-20.6) 149(0.6,-20.6) 150(1,-20.6) 151(1.4,-20.6) 152(1.8,-20.6) 153(2.2,-20.6) 154(2.6,-20.6) 155(3,-20.6) 156(3.4,-20.6) 157(3.8,-20.6) 158(4.2,-20.6) 159(4.6,-20.6) 160(5,-20.6) 161(5.4,-20.6) 162(5.8,-20.6) 163(6.2,-20.6) 164(6.6,-20.6) 165(7,-20.6) 166(7.4,-20.6) 167(7.8,-20.6) 168(8.2,-20.6) 169(8.6,-20.6) 170(9,-20.6) 171(9.4,-20.6) 172(9.8,-20.6) 173(10.2,-20.6) 174(10.6,-20.6) 175(11,-20.6) 176(11.4,-20.6) 177(11.8,-20.6) 178(12.2,-20.6) 179(12.6,-20.6) 180(13,-20.6) 181(13.4,-20.6) 182(13.8,-20.6) 183(14.2,-20.6) 184(14.6,-20.6) 185(15,-20.6) 186(15.4,-20.6) 187(15.8,-20.6) 188(16.2,-20.6) 189(16.6,-20.6) 190(17,-20.6) 191(17.4,-20.6) 192(17.8,-20.6) 193(18.2,-20.6) 194(18.6,-20.6) 195(19,-20.6) 196(19.4,-20.6) 295(19.4,20.6) 296(19,20.6) 297(18.6,20.6) 298(18.2,20.6) 299(17.8,20.6) 300(17.4,20.6) 301(17,20.6) 302(16.6,20.6) 303(16.2,20.6) 304(15.8,20.6) 305(15.4,20.6) 306(15,20.6) 307(14.6,20.6) 308(14.2,20.6) 309(13.8,20.6) 310(13.4,20.6) 311(13,20.6) 312(12.6,20.6) 313(12.2,20.6) 314(11.8,20.6) 315(11.4,20.6) 316(11,20.6) 317(10.6,20.6) 318(10.2,20.6) 319(9.8,20.6) 320(9.4,20.6) 321(9,20.6) 322(8.6,20.6) 323(8.2,20.6) 324(7.8,20.6) 325(7.4,20.6) 326(7,20.6) 327(6.6,20.6) 328(6.2,20.6) 329(5.8,20.6) 330(5.4,20.6) 331(5,20.6) 332(4.6,20.6) 333(4.2,20.6) 334(3.8,20.6) 335(3.4,20.6) 336(3,20.6) 337(2.6,20.6) 338(2.2,20.6) 339(1.8,20.6) 340(1.4,20.6) 341(1,20.6) 342(0.6,20.6) 343(0.2,20.6) 344(-0.2,20.6) 345(-0.6,20.6) 346(-1,20.6) 347(-1.4,20.6) 348(-1.8,20.6) 349(-2.2,20.6) 350(-2.6,20.6) 351(-3,20.6) 352(-3.4,20.6) 353(-3.8,20.6) 354(-4.2,20.6) 355(-4.6,20.6) 356(-5,20.6) 357(-5.4,20.6) 358(-5.8,20.6) 359(-6.2,20.6) 360(-6.6,20.6) 361(-7,20.6) 362(-7.4,20.6) 363(-7.8,20.6) 364(-8.2,20.6) 365(-8.6,20.6) 366(-9,20.6) 367(-9.4,20.6) 368(-9.8,20.6) 369(-10.2,20.6) 370(-10.6,20.6) 371(-11,20.6) 372(-11.4,20.6) 373(-11.8,20.6) 374(-12.2,20.6) 375(-12.6,20.6) 376(-13,20.6) 377(-13.4,20.6) 378(-13.8,20.6) 379(-14.2,20.6) 380(-14.6,20.6) 381(-15,20.6) 382(-15.4,20.6) 383(-15.8,20.6) 384(-16.2,20.6) 385(-16.6,20.6) 386(-17,20.6) 387(-17.4,20.6) 388(-17.8,20.6) 389(-18.2,20.6) 390(-18.6,20.6) 391(-19,20.6) 392(-19.4,20.6)
Top Overlay:
  circle w0.25: c-21.96,19.4 r0.125
  circle w0.6: c-18.4,18.4 r0.3
  lines w0.2: -19.4,-19.4 19.4,-19.4 19.4,19.4 -19.4,19.4 -19.4,-19.4

## SQFP40X40-512 [mm] "QFP; 512 Leads; Body 40 x 40 mm; Pitch 0.3 mm"
height 4.2
pads (512):
  rect 1.6x0.17 smd: 1(-20.6,19.05) 2(-20.6,18.75) 3(-20.6,18.45) 4(-20.6,18.15) 5(-20.6,17.85) 6(-20.6,17.55) 7(-20.6,17.25) 8(-20.6,16.95) 9(-20.6,16.65) 10(-20.6,16.35) 11(-20.6,16.05) 12(-20.6,15.75) 13(-20.6,15.45) 14(-20.6,15.15) 15(-20.6,14.85) 16(-20.6,14.55) 17(-20.6,14.25) 18(-20.6,13.95) 19(-20.6,13.65) 20(-20.6,13.35) 21(-20.6,13.05) 22(-20.6,12.75) 23(-20.6,12.45) 24(-20.6,12.15) 25(-20.6,11.85) 26(-20.6,11.55) 27(-20.6,11.25) 28(-20.6,10.95) 29(-20.6,10.65) 30(-20.6,10.35) 31(-20.6,10.05) 32(-20.6,9.75) 33(-20.6,9.45) 34(-20.6,9.15) 35(-20.6,8.85) 36(-20.6,8.55) 37(-20.6,8.25) 38(-20.6,7.95) 39(-20.6,7.65) 40(-20.6,7.35) 41(-20.6,7.05) 42(-20.6,6.75) 43(-20.6,6.45) 44(-20.6,6.15) 45(-20.6,5.85) 46(-20.6,5.55) 47(-20.6,5.25) 48(-20.6,4.95) 49(-20.6,4.65) 50(-20.6,4.35) 51(-20.6,4.05) 52(-20.6,3.75) 53(-20.6,3.45) 54(-20.6,3.15) 55(-20.6,2.85) 56(-20.6,2.55) 57(-20.6,2.25) 58(-20.6,1.95) 59(-20.6,1.65) 60(-20.6,1.35) 61(-20.6,1.05) 62(-20.6,0.75) 63(-20.6,0.45) 64(-20.6,0.15) 65(-20.6,-0.15) 66(-20.6,-0.45) 67(-20.6,-0.75) 68(-20.6,-1.05) 69(-20.6,-1.35) 70(-20.6,-1.65) 71(-20.6,-1.95) 72(-20.6,-2.25) 73(-20.6,-2.55) 74(-20.6,-2.85) 75(-20.6,-3.15) 76(-20.6,-3.45) 77(-20.6,-3.75) 78(-20.6,-4.05) 79(-20.6,-4.35) 80(-20.6,-4.65) 81(-20.6,-4.95) 82(-20.6,-5.25) 83(-20.6,-5.55) 84(-20.6,-5.85) 85(-20.6,-6.15) 86(-20.6,-6.45) 87(-20.6,-6.75) 88(-20.6,-7.05) 89(-20.6,-7.35) 90(-20.6,-7.65) 91(-20.6,-7.95) 92(-20.6,-8.25) 93(-20.6,-8.55) 94(-20.6,-8.85) 95(-20.6,-9.15) 96(-20.6,-9.45) 97(-20.6,-9.75) 98(-20.6,-10.05) 99(-20.6,-10.35) 100(-20.6,-10.65) 101(-20.6,-10.95) 102(-20.6,-11.25) 103(-20.6,-11.55) 104(-20.6,-11.85) 105(-20.6,-12.15) 106(-20.6,-12.45) 107(-20.6,-12.75) 108(-20.6,-13.05) 109(-20.6,-13.35) 110(-20.6,-13.65) 111(-20.6,-13.95) 112(-20.6,-14.25) 113(-20.6,-14.55) 114(-20.6,-14.85) 115(-20.6,-15.15) 116(-20.6,-15.45) 117(-20.6,-15.75) 118(-20.6,-16.05) 119(-20.6,-16.35) 120(-20.6,-16.65) 121(-20.6,-16.95) 122(-20.6,-17.25) 123(-20.6,-17.55) 124(-20.6,-17.85) 125(-20.6,-18.15) 126(-20.6,-18.45) 127(-20.6,-18.75) 128(-20.6,-19.05) 257(20.6,-19.05) 258(20.6,-18.75) 259(20.6,-18.45) 260(20.6,-18.15) 261(20.6,-17.85) 262(20.6,-17.55) 263(20.6,-17.25) 264(20.6,-16.95) 265(20.6,-16.65) 266(20.6,-16.35) 267(20.6,-16.05) 268(20.6,-15.75) 269(20.6,-15.45) 270(20.6,-15.15) 271(20.6,-14.85) 272(20.6,-14.55) 273(20.6,-14.25) 274(20.6,-13.95) 275(20.6,-13.65) 276(20.6,-13.35) 277(20.6,-13.05) 278(20.6,-12.75) 279(20.6,-12.45) 280(20.6,-12.15) 281(20.6,-11.85) 282(20.6,-11.55) 283(20.6,-11.25) 284(20.6,-10.95) 285(20.6,-10.65) 286(20.6,-10.35) 287(20.6,-10.05) 288(20.6,-9.75) 289(20.6,-9.45) 290(20.6,-9.15) 291(20.6,-8.85) 292(20.6,-8.55) 293(20.6,-8.25) 294(20.6,-7.95) 295(20.6,-7.65) 296(20.6,-7.35) 297(20.6,-7.05) 298(20.6,-6.75) 299(20.6,-6.45) 300(20.6,-6.15) 301(20.6,-5.85) 302(20.6,-5.55) 303(20.6,-5.25) 304(20.6,-4.95) 305(20.6,-4.65) 306(20.6,-4.35) 307(20.6,-4.05) 308(20.6,-3.75) 309(20.6,-3.45) 310(20.6,-3.15) 311(20.6,-2.85) 312(20.6,-2.55) 313(20.6,-2.25) 314(20.6,-1.95) 315(20.6,-1.65) 316(20.6,-1.35) 317(20.6,-1.05) 318(20.6,-0.75) 319(20.6,-0.45) 320(20.6,-0.15) 321(20.6,0.15) 322(20.6,0.45) 323(20.6,0.75) 324(20.6,1.05) 325(20.6,1.35) 326(20.6,1.65) 327(20.6,1.95) 328(20.6,2.25) 329(20.6,2.55) 330(20.6,2.85) 331(20.6,3.15) 332(20.6,3.45) 333(20.6,3.75) 334(20.6,4.05) 335(20.6,4.35) 336(20.6,4.65) 337(20.6,4.95) 338(20.6,5.25) 339(20.6,5.55) 340(20.6,5.85) 341(20.6,6.15) 342(20.6,6.45) 343(20.6,6.75) 344(20.6,7.05) 345(20.6,7.35) 346(20.6,7.65) 347(20.6,7.95) 348(20.6,8.25) 349(20.6,8.55) 350(20.6,8.85) 351(20.6,9.15) 352(20.6,9.45) 353(20.6,9.75) 354(20.6,10.05) 355(20.6,10.35) 356(20.6,10.65) 357(20.6,10.95) 358(20.6,11.25) 359(20.6,11.55) 360(20.6,11.85) 361(20.6,12.15) 362(20.6,12.45) 363(20.6,12.75) 364(20.6,13.05) 365(20.6,13.35) 366(20.6,13.65) 367(20.6,13.95) 368(20.6,14.25) 369(20.6,14.55) 370(20.6,14.85) 371(20.6,15.15) 372(20.6,15.45) 373(20.6,15.75) 374(20.6,16.05) 375(20.6,16.35) 376(20.6,16.65) 377(20.6,16.95) 378(20.6,17.25) 379(20.6,17.55) 380(20.6,17.85) 381(20.6,18.15) 382(20.6,18.45) 383(20.6,18.75) 384(20.6,19.05)
  rect 0.17x1.6 smd: 129(-19.05,-20.6) 130(-18.75,-20.6) 131(-18.45,-20.6) 132(-18.15,-20.6) 133(-17.85,-20.6) 134(-17.55,-20.6) 135(-17.25,-20.6) 136(-16.95,-20.6) 137(-16.65,-20.6) 138(-16.35,-20.6) 139(-16.05,-20.6) 140(-15.75,-20.6) 141(-15.45,-20.6) 142(-15.15,-20.6) 143(-14.85,-20.6) 144(-14.55,-20.6) 145(-14.25,-20.6) 146(-13.95,-20.6) 147(-13.65,-20.6) 148(-13.35,-20.6) 149(-13.05,-20.6) 150(-12.75,-20.6) 151(-12.45,-20.6) 152(-12.15,-20.6) 153(-11.85,-20.6) 154(-11.55,-20.6) 155(-11.25,-20.6) 156(-10.95,-20.6) 157(-10.65,-20.6) 158(-10.35,-20.6) 159(-10.05,-20.6) 160(-9.75,-20.6) 161(-9.45,-20.6) 162(-9.15,-20.6) 163(-8.85,-20.6) 164(-8.55,-20.6) 165(-8.25,-20.6) 166(-7.95,-20.6) 167(-7.65,-20.6) 168(-7.35,-20.6) 169(-7.05,-20.6) 170(-6.75,-20.6) 171(-6.45,-20.6) 172(-6.15,-20.6) 173(-5.85,-20.6) 174(-5.55,-20.6) 175(-5.25,-20.6) 176(-4.95,-20.6) 177(-4.65,-20.6) 178(-4.35,-20.6) 179(-4.05,-20.6) 180(-3.75,-20.6) 181(-3.45,-20.6) 182(-3.15,-20.6) 183(-2.85,-20.6) 184(-2.55,-20.6) 185(-2.25,-20.6) 186(-1.95,-20.6) 187(-1.65,-20.6) 188(-1.35,-20.6) 189(-1.05,-20.6) 190(-0.75,-20.6) 191(-0.45,-20.6) 192(-0.15,-20.6) 193(0.15,-20.6) 194(0.45,-20.6) 195(0.75,-20.6) 196(1.05,-20.6) 197(1.35,-20.6) 198(1.65,-20.6) 199(1.95,-20.6) 200(2.25,-20.6) 201(2.55,-20.6) 202(2.85,-20.6) 203(3.15,-20.6) 204(3.45,-20.6) 205(3.75,-20.6) 206(4.05,-20.6) 207(4.35,-20.6) 208(4.65,-20.6) 209(4.95,-20.6) 210(5.25,-20.6) 211(5.55,-20.6) 212(5.85,-20.6) 213(6.15,-20.6) 214(6.45,-20.6) 215(6.75,-20.6) 216(7.05,-20.6) 217(7.35,-20.6) 218(7.65,-20.6) 219(7.95,-20.6) 220(8.25,-20.6) 221(8.55,-20.6) 222(8.85,-20.6) 223(9.15,-20.6) 224(9.45,-20.6) 225(9.75,-20.6) 226(10.05,-20.6) 227(10.35,-20.6) 228(10.65,-20.6) 229(10.95,-20.6) 230(11.25,-20.6) 231(11.55,-20.6) 232(11.85,-20.6) 233(12.15,-20.6) 234(12.45,-20.6) 235(12.75,-20.6) 236(13.05,-20.6) 237(13.35,-20.6) 238(13.65,-20.6) 239(13.95,-20.6) 240(14.25,-20.6) 241(14.55,-20.6) 242(14.85,-20.6) 243(15.15,-20.6) 244(15.45,-20.6) 245(15.75,-20.6) 246(16.05,-20.6) 247(16.35,-20.6) 248(16.65,-20.6) 249(16.95,-20.6) 250(17.25,-20.6) 251(17.55,-20.6) 252(17.85,-20.6) 253(18.15,-20.6) 254(18.45,-20.6) 255(18.75,-20.6) 256(19.05,-20.6) 385(19.05,20.6) 386(18.75,20.6) 387(18.45,20.6) 388(18.15,20.6) 389(17.85,20.6) 390(17.55,20.6) 391(17.25,20.6) 392(16.95,20.6) 393(16.65,20.6) 394(16.35,20.6) 395(16.05,20.6) 396(15.75,20.6) 397(15.45,20.6) 398(15.15,20.6) 399(14.85,20.6) 400(14.55,20.6) 401(14.25,20.6) 402(13.95,20.6) 403(13.65,20.6) 404(13.35,20.6) 405(13.05,20.6) 406(12.75,20.6) 407(12.45,20.6) 408(12.15,20.6) 409(11.85,20.6) 410(11.55,20.6) 411(11.25,20.6) 412(10.95,20.6) 413(10.65,20.6) 414(10.35,20.6) 415(10.05,20.6) 416(9.75,20.6) 417(9.45,20.6) 418(9.15,20.6) 419(8.85,20.6) 420(8.55,20.6) 421(8.25,20.6) 422(7.95,20.6) 423(7.65,20.6) 424(7.35,20.6) 425(7.05,20.6) 426(6.75,20.6) 427(6.45,20.6) 428(6.15,20.6) 429(5.85,20.6) 430(5.55,20.6) 431(5.25,20.6) 432(4.95,20.6) 433(4.65,20.6) 434(4.35,20.6) 435(4.05,20.6) 436(3.75,20.6) 437(3.45,20.6) 438(3.15,20.6) 439(2.85,20.6) 440(2.55,20.6) 441(2.25,20.6) 442(1.95,20.6) 443(1.65,20.6) 444(1.35,20.6) 445(1.05,20.6) 446(0.75,20.6) 447(0.45,20.6) 448(0.15,20.6) 449(-0.15,20.6) 450(-0.45,20.6) 451(-0.75,20.6) 452(-1.05,20.6) 453(-1.35,20.6) 454(-1.65,20.6) 455(-1.95,20.6) 456(-2.25,20.6) 457(-2.55,20.6) 458(-2.85,20.6) 459(-3.15,20.6) 460(-3.45,20.6) 461(-3.75,20.6) 462(-4.05,20.6) 463(-4.35,20.6) 464(-4.65,20.6) 465(-4.95,20.6) 466(-5.25,20.6) 467(-5.55,20.6) 468(-5.85,20.6) 469(-6.15,20.6) 470(-6.45,20.6) 471(-6.75,20.6) 472(-7.05,20.6) 473(-7.35,20.6) 474(-7.65,20.6) 475(-7.95,20.6) 476(-8.25,20.6) 477(-8.55,20.6) 478(-8.85,20.6) 479(-9.15,20.6) 480(-9.45,20.6) 481(-9.75,20.6) 482(-10.05,20.6) 483(-10.35,20.6) 484(-10.65,20.6) 485(-10.95,20.6) 486(-11.25,20.6) 487(-11.55,20.6) 488(-11.85,20.6) 489(-12.15,20.6) 490(-12.45,20.6) 491(-12.75,20.6) 492(-13.05,20.6) 493(-13.35,20.6) 494(-13.65,20.6) 495(-13.95,20.6) 496(-14.25,20.6) 497(-14.55,20.6) 498(-14.85,20.6) 499(-15.15,20.6) 500(-15.45,20.6) 501(-15.75,20.6) 502(-16.05,20.6) 503(-16.35,20.6) 504(-16.65,20.6) 505(-16.95,20.6) 506(-17.25,20.6) 507(-17.55,20.6) 508(-17.85,20.6) 509(-18.15,20.6) 510(-18.45,20.6) 511(-18.75,20.6) 512(-19.05,20.6)
Top Overlay:
  circle w0.25: c-21.96,19.05 r0.125
  circle w0.6: c-18.4,18.4 r0.3
  lines w0.2: -19.4,-19.4 19.4,-19.4 19.4,19.4 -19.4,19.4 -19.4,-19.4

## SQFP40X40-520 [mm] "QFP; 520 Leads; Body 40 x 40 mm; Pitch 0.3 mm"
height 4.2
pads (520):
  rect 1.6x0.17 smd: 1(-20.6,19.35) 2(-20.6,19.05) 3(-20.6,18.75) 4(-20.6,18.45) 5(-20.6,18.15) 6(-20.6,17.85) 7(-20.6,17.55) 8(-20.6,17.25) 9(-20.6,16.95) 10(-20.6,16.65) 11(-20.6,16.35) 12(-20.6,16.05) 13(-20.6,15.75) 14(-20.6,15.45) 15(-20.6,15.15) 16(-20.6,14.85) 17(-20.6,14.55) 18(-20.6,14.25) 19(-20.6,13.95) 20(-20.6,13.65) 21(-20.6,13.35) 22(-20.6,13.05) 23(-20.6,12.75) 24(-20.6,12.45) 25(-20.6,12.15) 26(-20.6,11.85) 27(-20.6,11.55) 28(-20.6,11.25) 29(-20.6,10.95) 30(-20.6,10.65) 31(-20.6,10.35) 32(-20.6,10.05) 33(-20.6,9.75) 34(-20.6,9.45) 35(-20.6,9.15) 36(-20.6,8.85) 37(-20.6,8.55) 38(-20.6,8.25) 39(-20.6,7.95) 40(-20.6,7.65) 41(-20.6,7.35) 42(-20.6,7.05) 43(-20.6,6.75) 44(-20.6,6.45) 45(-20.6,6.15) 46(-20.6,5.85) 47(-20.6,5.55) 48(-20.6,5.25) 49(-20.6,4.95) 50(-20.6,4.65) 51(-20.6,4.35) 52(-20.6,4.05) 53(-20.6,3.75) 54(-20.6,3.45) 55(-20.6,3.15) 56(-20.6,2.85) 57(-20.6,2.55) 58(-20.6,2.25) 59(-20.6,1.95) 60(-20.6,1.65) 61(-20.6,1.35) 62(-20.6,1.05) 63(-20.6,0.75) 64(-20.6,0.45) 65(-20.6,0.15) 66(-20.6,-0.15) 67(-20.6,-0.45) 68(-20.6,-0.75) 69(-20.6,-1.05) 70(-20.6,-1.35) 71(-20.6,-1.65) 72(-20.6,-1.95) 73(-20.6,-2.25) 74(-20.6,-2.55) 75(-20.6,-2.85) 76(-20.6,-3.15) 77(-20.6,-3.45) 78(-20.6,-3.75) 79(-20.6,-4.05) 80(-20.6,-4.35) 81(-20.6,-4.65) 82(-20.6,-4.95) 83(-20.6,-5.25) 84(-20.6,-5.55) 85(-20.6,-5.85) 86(-20.6,-6.15) 87(-20.6,-6.45) 88(-20.6,-6.75) 89(-20.6,-7.05) 90(-20.6,-7.35) 91(-20.6,-7.65) 92(-20.6,-7.95) 93(-20.6,-8.25) 94(-20.6,-8.55) 95(-20.6,-8.85) 96(-20.6,-9.15) 97(-20.6,-9.45) 98(-20.6,-9.75) 99(-20.6,-10.05) 100(-20.6,-10.35) 101(-20.6,-10.65) 102(-20.6,-10.95) 103(-20.6,-11.25) 104(-20.6,-11.55) 105(-20.6,-11.85) 106(-20.6,-12.15) 107(-20.6,-12.45) 108(-20.6,-12.75) 109(-20.6,-13.05) 110(-20.6,-13.35) 111(-20.6,-13.65) 112(-20.6,-13.95) 113(-20.6,-14.25) 114(-20.6,-14.55) 115(-20.6,-14.85) 116(-20.6,-15.15) 117(-20.6,-15.45) 118(-20.6,-15.75) 119(-20.6,-16.05) 120(-20.6,-16.35) 121(-20.6,-16.65) 122(-20.6,-16.95) 123(-20.6,-17.25) 124(-20.6,-17.55) 125(-20.6,-17.85) 126(-20.6,-18.15) 127(-20.6,-18.45) 128(-20.6,-18.75) 129(-20.6,-19.05) 130(-20.6,-19.35) 261(20.6,-19.35) 262(20.6,-19.05) 263(20.6,-18.75) 264(20.6,-18.45) 265(20.6,-18.15) 266(20.6,-17.85) 267(20.6,-17.55) 268(20.6,-17.25) 269(20.6,-16.95) 270(20.6,-16.65) 271(20.6,-16.35) 272(20.6,-16.05) 273(20.6,-15.75) 274(20.6,-15.45) 275(20.6,-15.15) 276(20.6,-14.85) 277(20.6,-14.55) 278(20.6,-14.25) 279(20.6,-13.95) 280(20.6,-13.65) 281(20.6,-13.35) 282(20.6,-13.05) 283(20.6,-12.75) 284(20.6,-12.45) 285(20.6,-12.15) 286(20.6,-11.85) 287(20.6,-11.55) 288(20.6,-11.25) 289(20.6,-10.95) 290(20.6,-10.65) 291(20.6,-10.35) 292(20.6,-10.05) 293(20.6,-9.75) 294(20.6,-9.45) 295(20.6,-9.15) 296(20.6,-8.85) 297(20.6,-8.55) 298(20.6,-8.25) 299(20.6,-7.95) 300(20.6,-7.65) 301(20.6,-7.35) 302(20.6,-7.05) 303(20.6,-6.75) 304(20.6,-6.45) 305(20.6,-6.15) 306(20.6,-5.85) 307(20.6,-5.55) 308(20.6,-5.25) 309(20.6,-4.95) 310(20.6,-4.65) 311(20.6,-4.35) 312(20.6,-4.05) 313(20.6,-3.75) 314(20.6,-3.45) 315(20.6,-3.15) 316(20.6,-2.85) 317(20.6,-2.55) 318(20.6,-2.25) 319(20.6,-1.95) 320(20.6,-1.65) 321(20.6,-1.35) 322(20.6,-1.05) 323(20.6,-0.75) 324(20.6,-0.45) 325(20.6,-0.15) 326(20.6,0.15) 327(20.6,0.45) 328(20.6,0.75) 329(20.6,1.05) 330(20.6,1.35) 331(20.6,1.65) 332(20.6,1.95) 333(20.6,2.25) 334(20.6,2.55) 335(20.6,2.85) 336(20.6,3.15) 337(20.6,3.45) 338(20.6,3.75) 339(20.6,4.05) 340(20.6,4.35) 341(20.6,4.65) 342(20.6,4.95) 343(20.6,5.25) 344(20.6,5.55) 345(20.6,5.85) 346(20.6,6.15) 347(20.6,6.45) 348(20.6,6.75) 349(20.6,7.05) 350(20.6,7.35) 351(20.6,7.65) 352(20.6,7.95) 353(20.6,8.25) 354(20.6,8.55) 355(20.6,8.85) 356(20.6,9.15) 357(20.6,9.45) 358(20.6,9.75) 359(20.6,10.05) 360(20.6,10.35) 361(20.6,10.65) 362(20.6,10.95) 363(20.6,11.25) 364(20.6,11.55) 365(20.6,11.85) 366(20.6,12.15) 367(20.6,12.45) 368(20.6,12.75) 369(20.6,13.05) 370(20.6,13.35) 371(20.6,13.65) 372(20.6,13.95) 373(20.6,14.25) 374(20.6,14.55) 375(20.6,14.85) 376(20.6,15.15) 377(20.6,15.45) 378(20.6,15.75) 379(20.6,16.05) 380(20.6,16.35) 381(20.6,16.65) 382(20.6,16.95) 383(20.6,17.25) 384(20.6,17.55) 385(20.6,17.85) 386(20.6,18.15) 387(20.6,18.45) 388(20.6,18.75) 389(20.6,19.05) 390(20.6,19.35)
  rect 0.17x1.6 smd: 131(-19.35,-20.6) 132(-19.05,-20.6) 133(-18.75,-20.6) 134(-18.45,-20.6) 135(-18.15,-20.6) 136(-17.85,-20.6) 137(-17.55,-20.6) 138(-17.25,-20.6) 139(-16.95,-20.6) 140(-16.65,-20.6) 141(-16.35,-20.6) 142(-16.05,-20.6) 143(-15.75,-20.6) 144(-15.45,-20.6) 145(-15.15,-20.6) 146(-14.85,-20.6) 147(-14.55,-20.6) 148(-14.25,-20.6) 149(-13.95,-20.6) 150(-13.65,-20.6) 151(-13.35,-20.6) 152(-13.05,-20.6) 153(-12.75,-20.6) 154(-12.45,-20.6) 155(-12.15,-20.6) 156(-11.85,-20.6) 157(-11.55,-20.6) 158(-11.25,-20.6) 159(-10.95,-20.6) 160(-10.65,-20.6) 161(-10.35,-20.6) 162(-10.05,-20.6) 163(-9.75,-20.6) 164(-9.45,-20.6) 165(-9.15,-20.6) 166(-8.85,-20.6) 167(-8.55,-20.6) 168(-8.25,-20.6) 169(-7.95,-20.6) 170(-7.65,-20.6) 171(-7.35,-20.6) 172(-7.05,-20.6) 173(-6.75,-20.6) 174(-6.45,-20.6) 175(-6.15,-20.6) 176(-5.85,-20.6) 177(-5.55,-20.6) 178(-5.25,-20.6) 179(-4.95,-20.6) 180(-4.65,-20.6) 181(-4.35,-20.6) 182(-4.05,-20.6) 183(-3.75,-20.6) 184(-3.45,-20.6) 185(-3.15,-20.6) 186(-2.85,-20.6) 187(-2.55,-20.6) 188(-2.25,-20.6) 189(-1.95,-20.6) 190(-1.65,-20.6) 191(-1.35,-20.6) 192(-1.05,-20.6) 193(-0.75,-20.6) 194(-0.45,-20.6) 195(-0.15,-20.6) 196(0.15,-20.6) 197(0.45,-20.6) 198(0.75,-20.6) 199(1.05,-20.6) 200(1.35,-20.6) 201(1.65,-20.6) 202(1.95,-20.6) 203(2.25,-20.6) 204(2.55,-20.6) 205(2.85,-20.6) 206(3.15,-20.6) 207(3.45,-20.6) 208(3.75,-20.6) 209(4.05,-20.6) 210(4.35,-20.6) 211(4.65,-20.6) 212(4.95,-20.6) 213(5.25,-20.6) 214(5.55,-20.6) 215(5.85,-20.6) 216(6.15,-20.6) 217(6.45,-20.6) 218(6.75,-20.6) 219(7.05,-20.6) 220(7.35,-20.6) 221(7.65,-20.6) 222(7.95,-20.6) 223(8.25,-20.6) 224(8.55,-20.6) 225(8.85,-20.6) 226(9.15,-20.6) 227(9.45,-20.6) 228(9.75,-20.6) 229(10.05,-20.6) 230(10.35,-20.6) 231(10.65,-20.6) 232(10.95,-20.6) 233(11.25,-20.6) 234(11.55,-20.6) 235(11.85,-20.6) 236(12.15,-20.6) 237(12.45,-20.6) 238(12.75,-20.6) 239(13.05,-20.6) 240(13.35,-20.6) 241(13.65,-20.6) 242(13.95,-20.6) 243(14.25,-20.6) 244(14.55,-20.6) 245(14.85,-20.6) 246(15.15,-20.6) 247(15.45,-20.6) 248(15.75,-20.6) 249(16.05,-20.6) 250(16.35,-20.6) 251(16.65,-20.6) 252(16.95,-20.6) 253(17.25,-20.6) 254(17.55,-20.6) 255(17.85,-20.6) 256(18.15,-20.6) 257(18.45,-20.6) 258(18.75,-20.6) 259(19.05,-20.6) 260(19.35,-20.6) 391(19.35,20.6) 392(19.05,20.6) 393(18.75,20.6) 394(18.45,20.6) 395(18.15,20.6) 396(17.85,20.6) 397(17.55,20.6) 398(17.25,20.6) 399(16.95,20.6) 400(16.65,20.6) 401(16.35,20.6) 402(16.05,20.6) 403(15.75,20.6) 404(15.45,20.6) 405(15.15,20.6) 406(14.85,20.6) 407(14.55,20.6) 408(14.25,20.6) 409(13.95,20.6) 410(13.65,20.6) 411(13.35,20.6) 412(13.05,20.6) 413(12.75,20.6) 414(12.45,20.6) 415(12.15,20.6) 416(11.85,20.6) 417(11.55,20.6) 418(11.25,20.6) 419(10.95,20.6) 420(10.65,20.6) 421(10.35,20.6) 422(10.05,20.6) 423(9.75,20.6) 424(9.45,20.6) 425(9.15,20.6) 426(8.85,20.6) 427(8.55,20.6) 428(8.25,20.6) 429(7.95,20.6) 430(7.65,20.6) 431(7.35,20.6) 432(7.05,20.6) 433(6.75,20.6) 434(6.45,20.6) 435(6.15,20.6) 436(5.85,20.6) 437(5.55,20.6) 438(5.25,20.6) 439(4.95,20.6) 440(4.65,20.6) 441(4.35,20.6) 442(4.05,20.6) 443(3.75,20.6) 444(3.45,20.6) 445(3.15,20.6) 446(2.85,20.6) 447(2.55,20.6) 448(2.25,20.6) 449(1.95,20.6) 450(1.65,20.6) 451(1.35,20.6) 452(1.05,20.6) 453(0.75,20.6) 454(0.45,20.6) 455(0.15,20.6) 456(-0.15,20.6) 457(-0.45,20.6) 458(-0.75,20.6) 459(-1.05,20.6) 460(-1.35,20.6) 461(-1.65,20.6) 462(-1.95,20.6) 463(-2.25,20.6) 464(-2.55,20.6) 465(-2.85,20.6) 466(-3.15,20.6) 467(-3.45,20.6) 468(-3.75,20.6) 469(-4.05,20.6) 470(-4.35,20.6) 471(-4.65,20.6) 472(-4.95,20.6) 473(-5.25,20.6) 474(-5.55,20.6) 475(-5.85,20.6) 476(-6.15,20.6) 477(-6.45,20.6) 478(-6.75,20.6) 479(-7.05,20.6) 480(-7.35,20.6) 481(-7.65,20.6) 482(-7.95,20.6) 483(-8.25,20.6) 484(-8.55,20.6) 485(-8.85,20.6) 486(-9.15,20.6) 487(-9.45,20.6) 488(-9.75,20.6) 489(-10.05,20.6) 490(-10.35,20.6) 491(-10.65,20.6) 492(-10.95,20.6) 493(-11.25,20.6) 494(-11.55,20.6) 495(-11.85,20.6) 496(-12.15,20.6) 497(-12.45,20.6) 498(-12.75,20.6) 499(-13.05,20.6) 500(-13.35,20.6) 501(-13.65,20.6) 502(-13.95,20.6) 503(-14.25,20.6) 504(-14.55,20.6) 505(-14.85,20.6) 506(-15.15,20.6) 507(-15.45,20.6) 508(-15.75,20.6) 509(-16.05,20.6) 510(-16.35,20.6) 511(-16.65,20.6) 512(-16.95,20.6) 513(-17.25,20.6) 514(-17.55,20.6) 515(-17.85,20.6) 516(-18.15,20.6) 517(-18.45,20.6) 518(-18.75,20.6) 519(-19.05,20.6) 520(-19.35,20.6)
Top Overlay:
  circle w0.25: c-21.96,19.35 r0.125
  circle w0.6: c-18.4,18.4 r0.3
  lines w0.2: -19.4,-19.4 19.4,-19.4 19.4,19.4 -19.4,19.4 -19.4,-19.4